# EAGLE library part LPC11U24FBD64/401 (library mbed-HDK-MF-NXP)
32 Bit Microcontroller, ARM Cortex-M0, 50 MHz, 32 KB, 10 KB, 64 Pins, LQFP
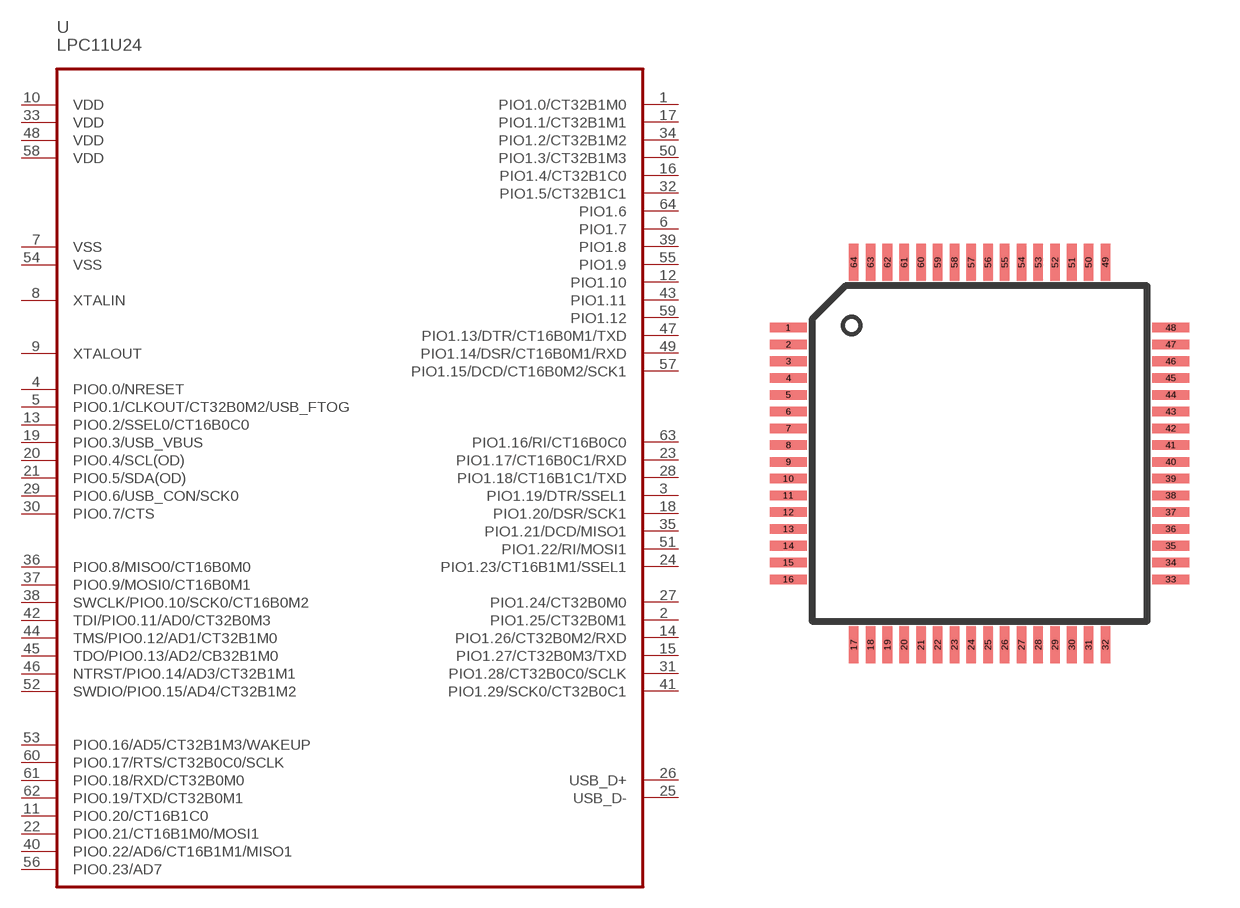
[diagram p8: symbol with the pads of LQFP64; footprint LQFP64]

Designator prefix U

## LPC11U24FBD64/401 (MF: NXP; MFN: LPC11U24FBD64/401; OC-DIGIKEY: 568-12055-ND; OC-MOUSER: 771-LPC11U24FBD64401; OC-NEWARK: 74T4531)  [LQFP64]
1  PIO1.0/CT32B1M0
2  PIO1.25/CT32B0M1
3  PIO1.19/DTR/SSEL1
4  PIO0.0/NRESET
5  PIO0.1/CLKOUT/CT32B0M2/USB_FTOG
6  PIO1.7
7  VSS
8  XTALIN
9  XTALOUT
10  VDD
11  PIO0.20/CT16B1C0
12  PIO1.10
13  PIO0.2/SSEL0/CT16B0C0
14  PIO1.26/CT32B0M2/RXD
15  PIO1.27/CT32B0M3/TXD
16  PIO1.4/CT32B1C0
17  PIO1.1/CT32B1M1
18  PIO1.20/DSR/SCK1
19  PIO0.3/USB_VBUS
20  PIO0.4/SCL(OD)
21  PIO0.5/SDA(OD)
22  PIO0.21/CT16B1M0/MOSI1
23  PIO1.17/CT16B0C1/RXD
24  PIO1.23/CT16B1M1/SSEL1
25  USB_D-
26  USB_D+
27  PIO1.24/CT32B0M0
28  PIO1.18/CT16B1C1/TXD
29  PIO0.6/USB_CON/SCK0
30  PIO0.7/CTS
31  PIO1.28/CT32B0C0/SCLK
32  PIO1.5/CT32B1C1
33  VDD
34  PIO1.2/CT32B1M2
35  PIO1.21/DCD/MISO1
36  PIO0.8/MISO0/CT16B0M0
37  PIO0.9/MOSI0/CT16B0M1
38  SWCLK/PIO0.10/SCK0/CT16B0M2
39  PIO1.8
40  PIO0.22/AD6/CT16B1M1/MISO1
41  PIO1.29/SCK0/CT32B0C1
42  TDI/PIO0.11/AD0/CT32B0M3
43  PIO1.11
44  TMS/PIO0.12/AD1/CT32B1M0
45  TDO/PIO0.13/AD2/CB32B1M0
46  NTRST/PIO0.14/AD3/CT32B1M1
47  PIO1.13/DTR/CT16B0M1/TXD
48  VDD
49  PIO1.14/DSR/CT16B0M1/RXD
50  PIO1.3/CT32B1M3
51  PIO1.22/RI/MOSI1
52  SWDIO/PIO0.15/AD4/CT32B1M2
53  PIO0.16/AD5/CT32B1M3/WAKEUP
54  VSS
55  PIO1.9
56  PIO0.23/AD7
57  PIO1.15/DCD/CT16B0M2/SCK1
58  VDD
59  PIO1.12
60  PIO0.17/RTS/CT32B0C0/SCLK
61  PIO0.18/RXD/CT32B0M0
62  PIO0.19/TXD/CT32B0M1
63  PIO1.16/RI/CT16B0C0
64  PIO1.6

## Footprint LQFP64 (pad centres in mm)
smd 1.1 x 0.285: 1 -5.7,3.75; 2 -5.7,3.25; 3 -5.7,2.75; 4 -5.7,2.25; 5 -5.7,1.75; 6 -5.7,1.25; 7 -5.7,0.75; 8 -5.7,0.25; 9 -5.7,-0.25; 10 -5.7,-0.75; 11 -5.7,-1.25; 12 -5.7,-1.75; 13 -5.7,-2.25; 14 -5.7,-2.75; 15 -5.7,-3.25; 16 -5.7,-3.75; 33 5.7,-3.75; 34 5.7,-3.25; 35 5.7,-2.75; 36 5.7,-2.25; 37 5.7,-1.75; 38 5.7,-1.25; 39 5.7,-0.75; 40 5.7,-0.25; 41 5.7,0.25; 42 5.7,0.75; 43 5.7,1.25; 44 5.7,1.75; 45 5.7,2.25; 46 5.7,2.75; 47 5.7,3.25; 48 5.7,3.75
smd 0.285 x 1.1: 17 -3.75,-5.7; 18 -3.25,-5.7; 19 -2.75,-5.7; 20 -2.25,-5.7; 21 -1.75,-5.7; 22 -1.25,-5.7; 23 -0.75,-5.7; 24 -0.25,-5.7; 25 0.25,-5.7; 26 0.75,-5.7; 27 1.25,-5.7; 28 1.75,-5.7; 29 2.25,-5.7; 30 2.75,-5.7; 31 3.25,-5.7; 32 3.75,-5.7; 49 3.75,5.7; 50 3.25,5.7; 51 2.75,5.7; 52 2.25,5.7; 53 1.75,5.7; 54 1.25,5.7; 55 0.75,5.7; 56 0.25,5.7; 57 -0.25,5.7; 58 -0.75,5.7; 59 -1.25,5.7; 60 -1.75,5.7; 61 -2.25,5.7; 62 -2.75,5.7; 63 -3.25,5.7; 64 -3.75,5.7